# Altium schematic symbol library CAP,Tant,10uF,10%,35V,2312.Schlib: 1 symbol
Pins are listed as number, name and electrical type; pins without a type are passive.

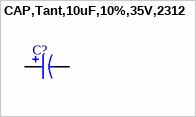
[diagram p0: symbol CAP,Tant,10uF,10%,35V,2312]

## CAP,Tant,10uF,10%,35V,2312
designator C?
pins: 1, 2